# EAGLE library part HEADER-07P-1R (library deiring-components)
Header 7 Pin 1 Row
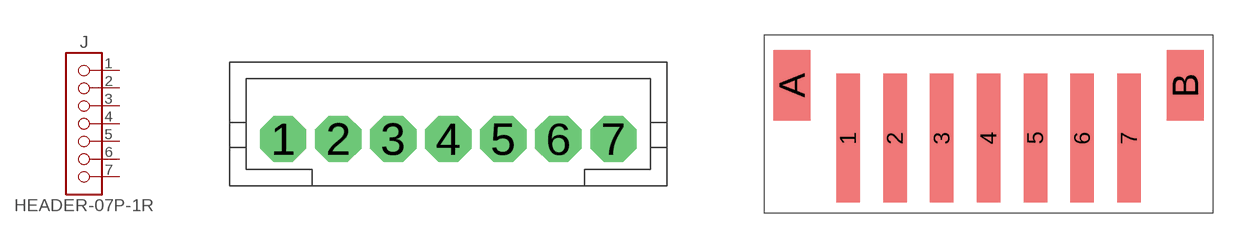
[diagram p10: symbol with the pads of JST-B7B-PH-K-S; footprints JST-B7B-PH-K-S, JST-B7B-PH-SM4-TB]

Designator prefix J

## HEADER-07P-1R-B7B-PH-K-S (LCSC: C157981; MF: JST Sales America; MPN: B7B-PH-K-S(LF)(SN); VALUE: 7P)  [JST-B7B-PH-K-S]
1  01  pas
2  02  pas
3  03  pas
4  04  pas
5  05  pas
6  06  pas
7  07  pas

## HEADER-07P-1R-B7B-PH-SM4-TB (LCSC: C495700; MF: JST Sales America; MPN: B7B-PH-SM4-TB(LF)(SN); VALUE: 7P)  [JST-B7B-PH-SM4-TB]
Pads as for JST-B7B-PH-K-S

## HEADER-07P-1R-S7B-PH-K-S (LCSC: C157917; MF: JST Sales America; MPN: S7B-PH-K-S(LF)(SN); VALUE: 7P)  [JST-S7B-PH-K-S]
Pads as for JST-B7B-PH-K-S

## HEADER-07P-1R-S7B-PH-SM4-TB (LCSC: C265453; MF: JST Sales America; MPN: S7B-PH-SM4-TB(LF)(SN); VALUE: 7P)  [JST-S7B-PH-SM4-TB]
Pads as for JST-B7B-PH-K-S

## HEADER-07P-1R-KF2EDGV-5.08-7P (LCSC: C441359; MF: Cixi Kefa Elec; MPN: KF2EDGV-5.08-7P; VALUE: 7P)  [KF2EDGV-5.08-7P]
Pads as for JST-B7B-PH-K-S

## HEADER-07P-1R-WJ15EDGVC-3.81-7P (LCSC: C31929; MF: Ningbo Kangnex Elec; MPN: WJ15EDGVC-3.81-7P; VALUE: 7P)  [WJ15EDGVC-3.81-7P]
Pads as for JST-B7B-PH-K-S

## HEADER-07P-1R-KF2EDGR-5.08-7P (LCSC: C441209; MF: Cixi Kefa Elec; MPN: KF2EDGR-5.08-7P; VALUE: 7P)  [KF2EDGR-5.08-7P]
Pads as for JST-B7B-PH-K-S

## Footprint JST-B7B-PH-K-S (pad centres in mm)
drill 0.813 pad 1.676 octagon: 1 -6,0; 2 -4,0; 3 -2,0; 4 0,0; 5 2,0; 6 4,0; 7 6,0

## Footprint JST-B7B-PH-SM4-TB (pad centres in mm)
smd 1 x 5.5: 1 -6,0; 2 -4,0; 3 -2,0; 4 0,0; 5 2,0; 6 4,0; 7 6,0
smd 1.6 x 3: A -8.4,2.25; B 8.4,2.25

## Footprint JST-S7B-PH-K-S (pad centres in mm)
drill 0.813 pad 1.676 octagon: 1 -6,0; 2 -4,0; 3 -2,0; 4 0,0; 5 2,0; 6 4,0; 7 6,0

## Footprint JST-S7B-PH-SM4-TB (pad centres in mm)
smd 1 x 3.5: 1 -6,0; 2 -4,0; 3 -2,0; 4 0,0; 5 2,0; 6 4,0; 7 6,0
smd 1.5 x 3.4: A -8.35,5.55; B 8.35,5.55

## Footprint KF2EDGV-5.08-7P (pad centres in mm)
drill 1.6: 1 -15.24,0; 2 -10.16,0; 3 -5.08,0; 4 0,0; 5 5.08,0; 6 10.16,0; 7 15.24,0

## Footprint WJ15EDGVC-3.81-7P (pad centres in mm)
drill 1.2 pad 2: 1 -11.43,0; 2 -7.62,0; 3 -3.81,0; 4 0,0; 5 3.81,0; 6 7.62,0; 7 11.43,0

## Footprint KF2EDGR-5.08-7P (pad centres in mm)
drill 1.6: 1 -15.24,0; 2 -10.16,0; 3 -5.08,0; 4 0,0; 5 5.08,0; 6 10.16,0; 7 15.24,0